# EAGLE library part MAG_JACK (library connectors)
Low cost Ethernet jack with magnetics and LEDs.
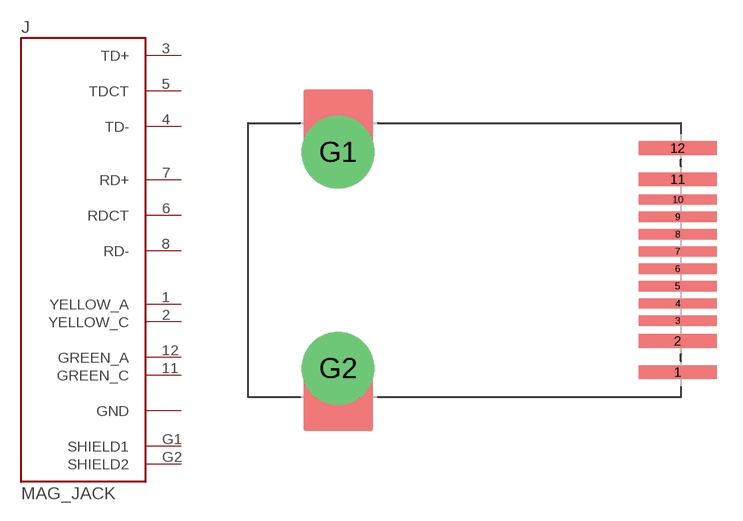
[diagram p12: symbol with the pads of J3; footprint J3]

Designator prefix J

## MAG_JACK (REVIEWED: NO; TESTED: NO), MAG_JACK-634008, MAG_JACK-ARJE-0034 (MF: Abracon; MPN: ARJE-0034; REVIEWED: NO; TESTED: NO; VALUE: ARJE-0034), MAG_JACK-J2011 (MF: Pulse; MPN: J3011G21DNL; REVIEWED: NO; TESTED: NO; VALUE: J3011)  [J3]
1  YELLOW_A
2  YELLOW_C
3  TD+
4  TD-
5  TDCT
6  RDCT
7  RD+
8  RD-
9  GND
10  GND
11  GREEN_C
12  GREEN_A
G1  SHIELD1
G2  SHIELD2

## Footprint J3 (pad centres in mm)
Per Pulse Datasheet Drawn 9-1-2014 by Michael Ferguson Updated 2/27/15 to have larger solder tabs, to support ARJE-0034
smd 4.597 x 0.813: 1 19.926,-6.579; 2 19.926,-4.75; 11 19.926,4.75; 12 19.926,6.579
smd 4.597 x 0.61: 3 19.926,-3.556; 4 19.926,-2.54; 5 19.926,-1.524; 6 19.926,-0.508; 7 19.926,0.508; 8 19.926,1.524; 9 19.926,2.54; 10 19.926,3.556
drill 3.251: G1 0,6.35; G2 0,-6.35